# EAGLE library part GSM0308-11 (library eagleParts)
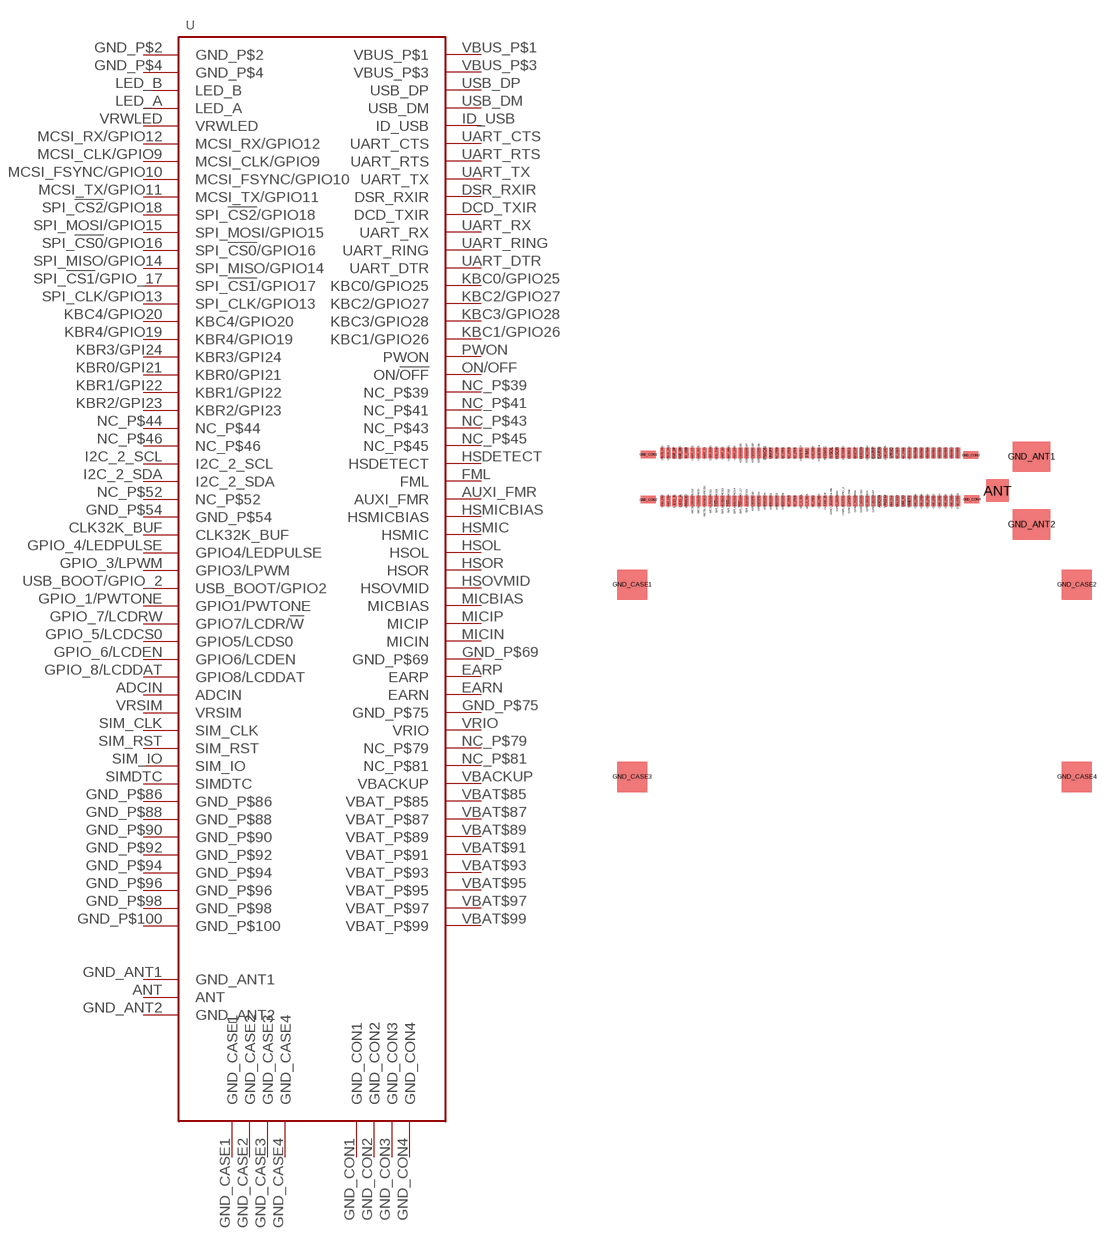
[diagram p3: symbol with the pads of GSM0308-11; footprint GSM0308-11]

Designator prefix -

## GSM0308-11  [GSM0308-11]
ADCIN  ADCIN
ANT  ANT
AUXI_FMR  AUXI_FMR
CLK32K_BUF  CLK32K_BUF
DCD_TXIR  DCD_TXIR
DSR_RXIR  DSR_RXIR
EARN  EARN
EARP  EARP
FML  FML
GND_ANT1  GND_ANT1
GND_ANT2  GND_ANT2
GND_CASE1  GND_CASE1
GND_CASE2  GND_CASE2
GND_CASE3  GND_CASE3
GND_CASE4  GND_CASE4
GND_CON1  GND_CON1
GND_CON2  GND_CON2
GND_CON3  GND_CON3
GND_CON4  GND_CON4
GND_P$2  GND_P$2
GND_P$4  GND_P$4
GND_P$54  GND_P$54
GND_P$69  GND_P$69
GND_P$75  GND_P$75
GND_P$86  GND_P$86
GND_P$88  GND_P$88
GND_P$90  GND_P$90
GND_P$92  GND_P$92
GND_P$94  GND_P$94
GND_P$96  GND_P$96
GND_P$98  GND_P$98
GND_P$100  GND_P$100
GPIO_1/PWTONE  GPIO1/PWTONE
GPIO_3/LPWM  GPIO3/LPWM
GPIO_4/LEDPULSE  GPIO4/LEDPULSE
GPIO_5/LCDCS0  GPIO5/LCDS0
GPIO_6/LCDEN  GPIO6/LCDEN
GPIO_7/LCDRW  GPIO7/LCDR/!W
GPIO_8/LCDDAT  GPIO8/LCDDAT
HSDETECT  HSDETECT
HSMIC  HSMIC
HSMICBIAS  HSMICBIAS
HSOL  HSOL
HSOR  HSOR
HSOVMID  HSOVMID
I2C_2_SCL  I2C_2_SCL
I2C_2_SDA  I2C_2_SDA
ID_USB  ID_USB
KBC0/GPIO25  KBC0/GPIO25
KBC1/GPIO26  KBC1/GPIO26
KBC2/GPIO27  KBC2/GPIO27
KBC3/GPIO28  KBC3/GPIO28
KBC4/GPIO20  KBC4/GPIO20
KBR0/GPI21  KBR0/GPI21
KBR1/GPI22  KBR1/GPI22
KBR2/GPI23  KBR2/GPI23
KBR3/GPI24  KBR3/GPI24
KBR4/GPIO19  KBR4/GPIO19
LED_A  LED_A
LED_B  LED_B
MCSI_CLK/GPIO9  MCSI_CLK/GPIO9
MCSI_FSYNC/GPIO10  MCSI_FSYNC/GPIO10
MCSI_RX/GPIO12  MCSI_RX/GPIO12
MCSI_TX/GPIO11  MCSI_TX/GPIO11
MICBIAS  MICBIAS
MICIN  MICIN
MICIP  MICIP
NC_P$39  NC_P$39
NC_P$41  NC_P$41
NC_P$43  NC_P$43
NC_P$44  NC_P$44
NC_P$45  NC_P$45
NC_P$46  NC_P$46
NC_P$52  NC_P$52
NC_P$79  NC_P$79
NC_P$81  NC_P$81
ON/OFF  ON/!OFF
PWON  PWON
SIM_CLK  SIM_CLK
SIM_IO  SIM_IO
SIM_RST  SIM_RST
SIMDTC  SIMDTC
SPI_!CS0!/GPIO16  SPI_!CS0!/GPIO16
SPI_!CS1!/GPIO_17  SPI_!CS1!/GPIO17
SPI_!CS2!/GPIO18  SPI_!CS2!/GPIO18
SPI_CLK/GPIO13  SPI_CLK/GPIO13
SPI_MISO/GPIO14  SPI_MISO/GPIO14
SPI_MOSI/GPIO15  SPI_MOSI/GPIO15
UART_CTS  UART_CTS
UART_DTR  UART_DTR
UART_RING  UART_RING
UART_RTS  UART_RTS
UART_RX  UART_RX
UART_TX  UART_TX
USB_BOOT/GPIO_2  USB_BOOT/GPIO2
USB_DM  USB_DM
USB_DP  USB_DP
VBACKUP  VBACKUP
VBAT$85  VBAT_P$85
VBAT$87  VBAT_P$87
VBAT$89  VBAT_P$89
VBAT$91  VBAT_P$91
VBAT$93  VBAT_P$93
VBAT$95  VBAT_P$95
VBAT$97  VBAT_P$97
VBAT$99  VBAT_P$99
VBUS_P$1  VBUS_P$1
VBUS_P$3  VBUS_P$3
VRIO  VRIO
VRSIM  VRSIM
VRWLED  VRWLED

## Footprint GSM0308-11 (pad centres in mm)
smd 0.3 x 0.7: ADCIN 1.4,11.8; AUXI_FMR -3,15; CLK32K_BUF -2.2,11.8; DCD_TXIR -9.4,15; DSR_RXIR -9.8,15; EARN 1.4,15; EARP 1,15; FML -3.4,15; GND_P$2 -13,11.8; GND_P$4 -12.6,11.8; GND_P$54 -2.6,11.8; GND_P$69 0.6,15; GND_P$75 1.8,15; GND_P$86 3.8,11.8; GND_P$88 4.2,11.8; GND_P$90 4.6,11.8; GND_P$92 5,11.8; GND_P$94 5.4,11.8; GND_P$96 5.8,11.8; GND_P$98 6.2,11.8; GND_P$100 6.6,11.8; GPIO_1/PWTONE -0.6,11.8; GPIO_3/LPWM -1.4,11.8; GPIO_4/LEDPULSE -1.8,11.8; GPIO_5/LCDCS0 0.2,11.8; GPIO_6/LCDEN 0.6,11.8; GPIO_7/LCDRW -0.2,11.8; GPIO_8/LCDDAT 1,11.8; HSDETECT -3.8,15; HSMIC -2.2,15; HSMICBIAS -2.6,15; HSOL -1.8,15; HSOR -1.4,15; HSOVMID -1,15; I2C_2_SCL -3.8,11.8; I2C_2_SDA -3.4,11.8; ID_USB -11.4,15; KBC0/GPIO25 -7.8,15; KBC1/GPIO26 -6.6,15; KBC2/GPIO27 -7.4,15; KBC3/GPIO28 -7,15; KBC4/GPIO20 -7,11.8; KBR0/GPI21 -5.8,11.8; KBR1/GPI22 -5.4,11.8; KBR2/GPI23 -5,11.8; KBR3/GPI24 -6.2,11.8; KBR4/GPIO19 -6.6,11.8; LED_A -11.8,11.8; LED_B -12.2,11.8; MCSI_CLK/GPIO9 -10.6,11.8; MCSI_FSYNC/GPIO10 -10.2,11.8; MCSI_RX/GPIO12 -11,11.8; MCSI_TX/GPIO11 -9.8,11.8; MICBIAS -0.6,15; MICIN 0.2,15; MICIP -0.2,15; NC_P$39 -5.4,15; NC_P$41 -5,15; NC_P$43 -4.6,15; NC_P$44 -4.6,11.8; NC_P$45 -4.2,15; NC_P$46 -4.2,11.8; NC_P$52 -3,11.8; NC_P$79 2.6,15; NC_P$81 3,15; ON/OFF -5.8,15; PWON -6.2,15; SIM_CLK 2.2,11.8; SIM_IO 3,11.8; SIM_RST 2.6,11.8; SIMDTC 3.4,11.8; SPI_!CS0!/GPIO16 -8.6,11.8; SPI_!CS1!/GPIO_17 -7.8,11.8; SPI_!CS2!/GPIO18 -9.4,11.8; SPI_CLK/GPIO13 -7.4,11.8; SPI_MISO/GPIO14 -8.2,11.8; SPI_MOSI/GPIO15 -9,11.8; UART_CTS -11,15; UART_DTR -8.2,15; UART_RING -8.6,15; UART_RTS -10.6,15; UART_RX -9,15; UART_TX -10.2,15; USB_BOOT/GPIO_2 -1,11.8; USB_DM -11.8,15; USB_DP -12.2,15; VBACKUP 3.4,15; VBAT$85 3.8,15; VBAT$87 4.2,15; VBAT$89 4.6,15; VBAT$91 5,15; VBAT$93 5.4,15; VBAT$95 5.8,15; VBAT$97 6.2,15; VBAT$99 6.6,15; VBUS_P$1 -13,15; VBUS_P$3 -12.6,15; VRIO 2.2,15; VRSIM 1.8,11.8; VRWLED -11.4,11.8
smd 1.5 x 1.5: ANT 9.25,12.5
smd 2.5 x 2: GND_ANT1 11.5,14.75; GND_ANT2 11.5,10.25
smd 2 x 2: GND_CASE1 -15,6.25; GND_CASE2 14.5,6.25; GND_CASE3 -15,-6.5; GND_CASE4 14.5,-6.5
smd 1 x 0.5: GND_CON1 -13.925,14.9; GND_CON2 -13.925,11.9; GND_CON3 7.475,14.85; GND_CON4 7.525,11.925